# Altium footprint library 4-SMD.PcbLib: 1 footprints
Each footprint in its own frame and in the unit in brackets; x right, y up, seen from the top. Pads: shape width x height; smd on the part's side, far side on the other; paste and mask are expansions set on the pad; w line width, h text height; cw(c..) or ccw(c..) is an arc to the next point about the centre after c.
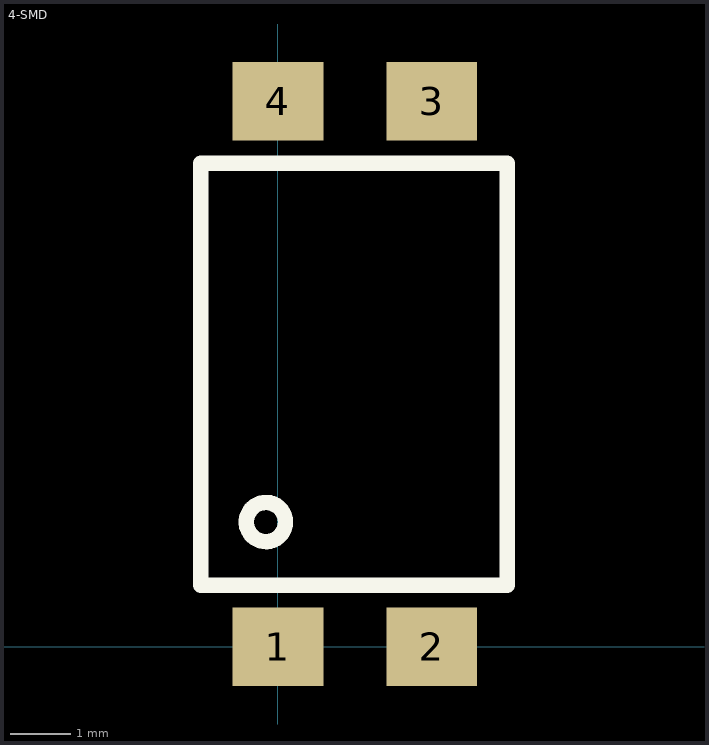
[diagram p0: the footprint, top view; thin cyan lines are the x and y axes]

## 4-SMD [mm] "4 pin 300 mil"
pads (4):
  rect 1.5x1.3 smd: 1(0,0) 2(2.54,0) 3(2.54,9) 4(0,9)
Top Overlay:
  circle w0.254: c-0.196,2.057 r0.323
  lines w0.254: -1.27,7.95 -1.27,1.016 3.785,1.016 3.785,7.976 -1.27,7.976